# Altium footprint library Package_DPAK.PcbLib: 1 footprints
Each footprint in its own frame and in the unit in brackets; x right, y up, seen from the top. Pads: shape width x height; smd on the part's side, far side on the other; paste and mask are expansions set on the pad; w line width, h text height; cw(c..) or ccw(c..) is an arc to the next point about the centre after c.
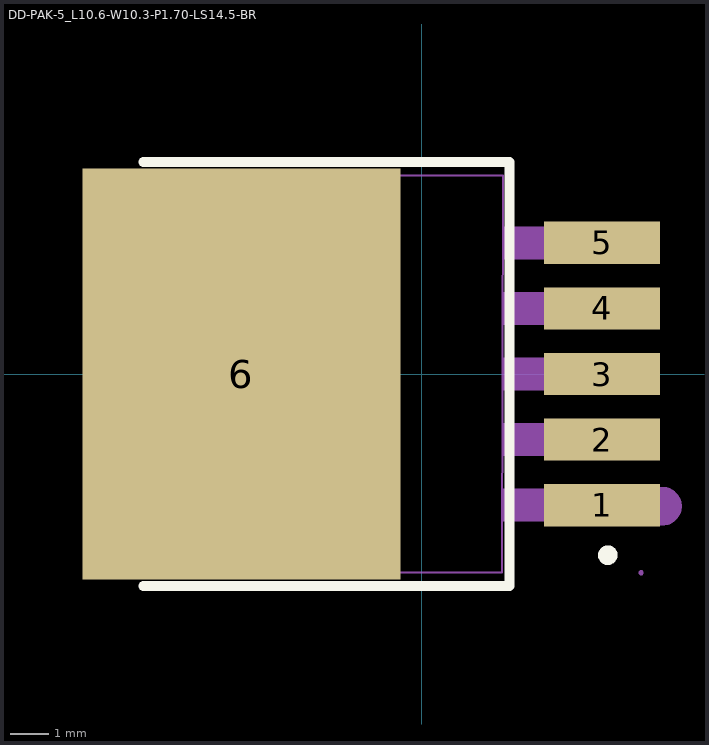
[diagram p0: the footprint, top view; thin cyan lines are the x and y axes]

## DD-PAK-5_L10.6-W10.3-P1.70-LS14.5-BR [mil]
pads (6):
  rect 118.1x43.3 smd mask+2: 1(184.1,-133.9) 2(184.1,-66.9) 3(184.1,0) 4(184.1,66.9) 5(184.1,133.9)
  rect 325x420 smd mask+2: 6(-184.1,0)
Top Overlay:
  circle w10: c190,-185 r5
  lines w10: -284.5,-216.5 89.6,-216.5 89.6,216.5 -284.5,216.5
Mechanical 6:
  circle w19.7: c245.9,-135 r9.8
Mechanical 15:
  region: 226.3,-202.9 226.3,-201.91 224.89,-200.5 222.91,-200.5 221.5,-201.91 221.5,-202.9 221.5,-203.89 222.91,-205.3 224.89,-205.3 226.3,-203.89 226.3,-202.9
  region: 173.9,-16.5 173.9,16.5 223.9,16.5 223.9,-16.5
  region: 173.9,-83.4 173.9,-50.4 223.9,-50.4 223.9,-83.4
  region: 173.9,-150.4 173.9,-117.4 223.9,-117.4 223.9,-150.4
  region: 173.9,117.4 173.9,150.4 223.9,150.4 223.9,117.4
  region: 173.9,50.4 173.9,83.4 223.9,83.4 223.9,50.4
  region: 82,50.4 82,83.5 174.6,83.5 174.6,50.4
  region: 81.9,-16.5 81.9,16.5 174.5,16.5 174.5,-16.5
  region: 81.7,-83.4 81.7,-50.4 174.3,-50.4 174.3,-83.4
  region: 81.7,-150.4 81.7,-117.3 174.3,-117.3 174.3,-150.4
  region: -24.2,-150 -267.4,-151.2 -267.4,-196.8 -311.5,-196.8 -326.8,-130.3 -326.8,130.3 -311.5,196.9 -267.4,196.9 -267.4,151.2 -24.2,150
  region: 82.1,117.4 82.1,150.4 174.7,150.4 174.7,117.4
  lines w2: -327.4,-202.9 82.1,-202.6 82.9,202.6 -327.4,202.7 -327.4,-202.9
3D body "U1.stp": height 173.23, standoff 0, extent -327.2,-201.19 224,201.19